# Altium schematic symbol library 2G07.SchLib: 1 symbol
Pins are listed as number, name and electrical type; pins without a type are passive.

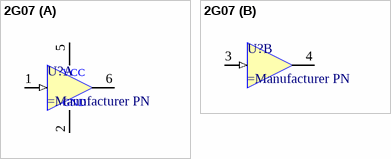
[diagram p0: symbol 2G07]

## 2G07
designator U?
Dual Buffer, Open-Drain Outputs
part A pins: 1 1A (in), 2 GND (power), 5 VCC (power), 6 1Y (oc)
part B pins: 3 2A (in), 4 2Y (oc)